# Altium footprint library NX_1.PcbLib: 24 footprints (part 2 of 2)
Each footprint in its own frame and in the unit in brackets; x right, y up, seen from the top. Pads: shape width x height; smd on the part's side, far side on the other; paste and mask are expansions set on the pad; w line width, h text height; cw(c..) or ccw(c..) is an arc to the next point about the centre after c.
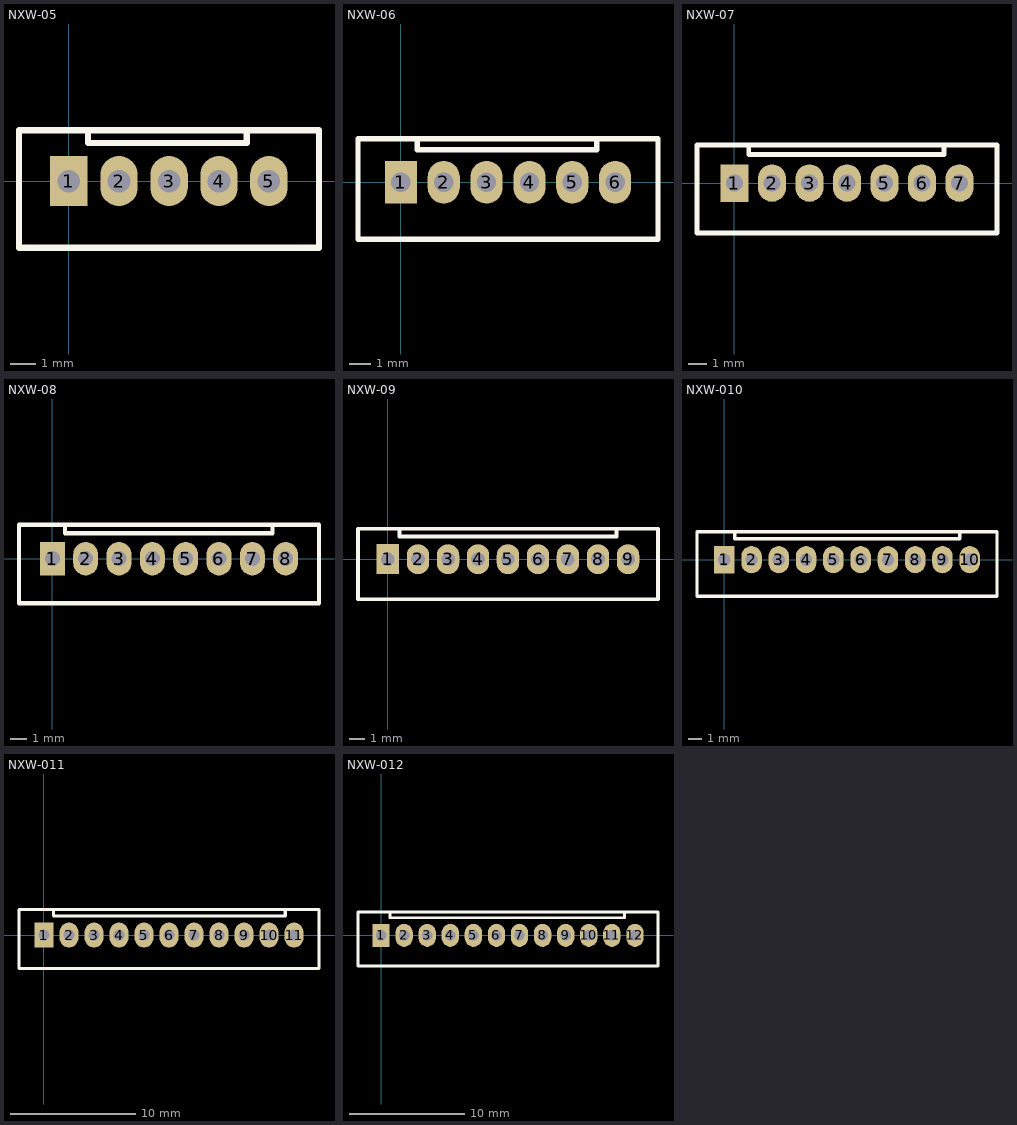
[diagram p1: the footprints below, top view; thin cyan lines are the x and y axes]

## NXW-05 [mm]
pads (5):
  rect 1.5x2 hole 0.9: 1(0,0)
  oval 1.5x2 hole 0.9: 2(2,0) 3(4,0) 4(6,0) 5(8,0)
Top Overlay:
  lines w0.254: 0.762,2.032 0.762,1.524 7.112,1.524 7.112,2.032 ; -2,-2.667 10,-2.667 10,2.032 -2,2.032 -2,-2.667

## NXW-06 [mm]
pads (6):
  rect 1.5x2 hole 0.9: 1(0,0)
  oval 1.5x2 hole 0.9: 2(2,0) 3(4,0) 4(6,0) 5(8,0) 6(10,0)
Top Overlay:
  lines w0.254: 0.762,2.032 0.762,1.524 9.144,1.524 9.144,2.032 ; -2,-2.667 -2,2.032 12,2.032 12,-2.667 -2,-2.667

## NXW-07 [mm]
pads (7):
  rect 1.5x2 hole 0.9: 1(0,0)
  oval 1.5x2 hole 0.9: 2(2,0) 3(4,0) 4(6,0) 5(8,0) 6(10,0) 7(12,0)
Top Overlay:
  lines w0.254: 0.762,2.032 0.762,1.524 11.176,1.524 11.176,2.032 ; -2,-2.667 -2,2.032 14,2.032 14,-2.667 -2,-2.667
3D body "89400-0710.stp": height 3.03, standoff -6.43, extent -2.007,-2.96 13.993,1.69

## NXW-08 [mm]
pads (8):
  rect 1.5x2 hole 0.9: 1(0,0)
  oval 1.5x2 hole 0.9: 2(2,0) 3(4,0) 4(6,0) 5(8,0) 6(10,0) 7(12,0) 8(14,0)
Top Overlay:
  lines w0.254: 0.762,2.032 0.762,1.524 13.208,1.524 13.208,2.032 ; -2,-2.667 -2,2.032 16,2.032 16,-2.667 -2,-2.667

## NXW-09 [mm]
pads (9):
  rect 1.5x2 hole 0.9: 1(0,0)
  oval 1.5x2 hole 0.9: 2(2,0) 3(4,0) 4(6,0) 5(8,0) 6(10,0) 7(12,0) 8(14,0) 9(16,0)
Top Overlay:
  lines w0.254: 0.762,2.032 0.762,1.524 15.24,1.524 15.24,2.032 ; -2,-2.667 -2,2.032 18,2.032 18,-2.667 -2,-2.667

## NXW-010 [mm]
pads (10):
  rect 1.5x2 hole 0.9: 1(0,0)
  oval 1.5x2 hole 0.9: 2(2,0) 3(4,0) 4(6,0) 5(8,0) 6(10,0) 7(12,0) 8(14,0) 9(16,0) 10(18,0)
Top Overlay:
  lines w0.254: 0.762,2.032 0.762,1.524 17.272,1.524 17.272,2.032 ; -2,-2.667 -2,2.032 20,2.032 20,-2.667 -2,-2.667

## NXW-011 [mm]
pads (11):
  rect 1.5x2 hole 0.9: 1(0,0)
  oval 1.5x2 hole 0.9: 2(2,0) 3(4,0) 4(6,0) 5(8,0) 6(10,0) 7(12,0) 8(14,0) 9(16,0) 10(18,0) 11(20,0)
Top Overlay:
  lines w0.254: 0.762,2.032 0.762,1.524 19.304,1.524 19.304,2.032 ; -2,-2.667 -2,2.032 22,2.032 22,-2.667 -2,-2.667

## NXW-012 [mm]
pads (12):
  rect 1.5x2 hole 0.9: 1(0,0)
  oval 1.5x2 hole 0.9: 2(2,0) 3(4,0) 4(6,0) 5(8,0) 6(10,0) 7(12,0) 8(14,0) 9(16,0) 10(18,0) 11(20,0) 12(22,0)
Top Overlay:
  lines w0.254: 0.762,2.032 0.762,1.524 21.082,1.524 21.082,2.032 ; -2,-2.667 -2,2.032 24,2.032 24,-2.667 -2,-2.667